# Altium footprint library tmp.PcbLib: 3 footprints
Each footprint in its own frame and in the unit in brackets; x right, y up, seen from the top. Pads: shape width x height; smd on the part's side, far side on the other; paste and mask are expansions set on the pad; w line width, h text height; cw(c..) or ccw(c..) is an arc to the next point about the centre after c.
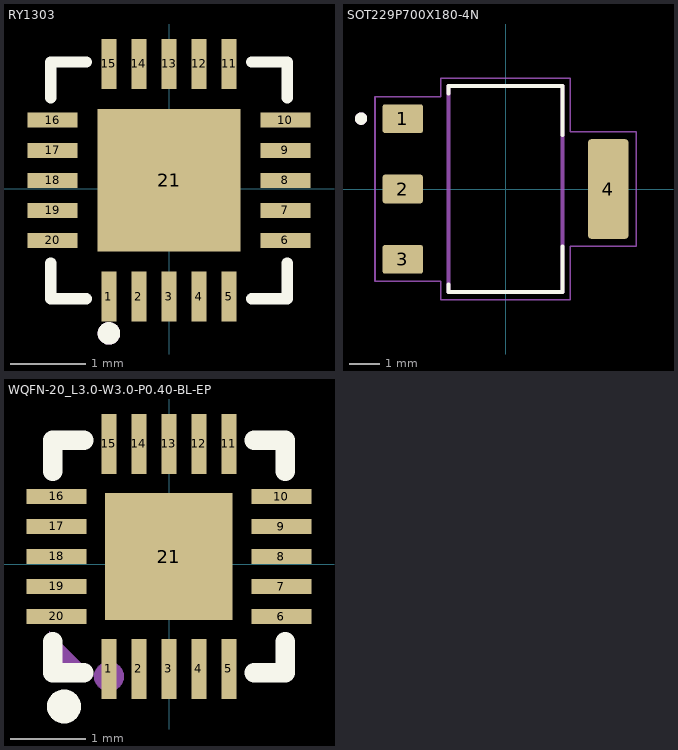
[diagram p0: the footprints below, top view; thin cyan lines are the x and y axes]

## RY1303 [mm]
pads (21):
  rect 0.2x0.665 smd: 1(-0.8,-1.434) 2(-0.4,-1.434) 3(0,-1.434) 4(0.4,-1.434) 5(0.8,-1.434) 11(0.8,1.666) 12(0.4,1.666) 13(0,1.666) 14(-0.4,1.666) 15(-0.8,1.666)
  rect 0.665x0.2 smd: 6(1.55,-0.684) 7(1.55,-0.284) 8(1.55,0.116) 9(1.55,0.516) 10(1.55,0.916) 16(-1.55,0.916) 17(-1.55,0.516) 18(-1.55,0.116) 19(-1.55,-0.284) 20(-1.55,-0.684)
  rect 1.9x1.9 smd: 21(0,0.116)
Top Overlay:
  circle w0.15: c-0.8,-1.924 r0.075
  lines w0.152: -1.576,-0.986 -1.576,-1.46 -1.103,-1.46 ; -1.576,1.219 -1.576,1.692 -1.103,1.692 ; 1.103,-1.46 1.576,-1.46 1.576,-0.986 ; 1.103,1.692 1.576,1.692 1.576,1.219
Mechanical 15:
  circle w0.15: c-0.8,-1.924 r0.075

## SOT229P700X180-4N [mm]
pads (4):
  rrect15% 1.31x0.93 smd: 1(-3.345,2.29) 2(-3.345,0) 3(-3.345,-2.29)
  rrect15% 1.31x3.24 smd: 4(3.345,0)
Top Overlay:
  circle w0.2: c-4.703,2.29 r0.1
  lines w0.127: -1.86,-3.11 -1.86,-3.36 1.86,-3.36 1.86,-1.87 ; -1.86,3.1 -1.86,3.36 1.86,3.36 1.86,1.76
Mechanical 13:
  circle w0.2: c-4.703,2.29 r0.1
  lines w0.127: -1.86,-3.36 1.86,-3.36 1.86,3.36 -1.86,3.36 -1.86,-3.36
Mechanical 15:
  lines w0.05: -4.25,-3.01 -4.25,3.01 -2.11,3.01 -2.11,3.61 2.11,3.61 2.11,1.87 4.25,1.87 4.25,-1.87 2.11,-1.87 2.11,-3.61 -2.11,-3.61 -2.11,-3.01 -4.25,-3.01
3D body "step_temp.STEP": height 0.97, standoff -0.84, extent -3.499,-3.251 3.499,3.251

## WQFN-20_L3.0-W3.0-P0.40-BL-EP [mm]
pads (21):
  rect 0.2x0.8 smd: 1(-0.8,-1.4) 2(-0.4,-1.4) 3(0,-1.4) 4(0.4,-1.4) 5(0.8,-1.4) 11(0.8,1.6) 12(0.4,1.6) 13(0,1.6) 14(-0.4,1.6) 15(-0.8,1.6)
  rect 0.8x0.2 smd: 6(1.5,-0.7) 7(1.5,-0.3) 8(1.5,0.1) 9(1.5,0.5) 10(1.5,0.9) 16(-1.5,0.9) 17(-1.5,0.5) 18(-1.5,0.1) 19(-1.5,-0.3) 20(-1.5,-0.7)
  rect 1.7x1.7 smd: 21(0,0.1)
Top Overlay:
  circle w0.254: c-1.4,-1.9 r0.1
  lines w0.254: -1.55,-1.031 -1.55,-1.45 -1.131,-1.45 ; -1.55,1.231 -1.55,1.65 -1.131,1.65 ; 1.131,-1.45 1.55,-1.45 1.55,-1.031 ; 1.131,1.65 1.55,1.65 1.55,1.231
Mechanical 15:
  circle w0.2: c-0.8,-1.5 r0.1
  region: -1.6,-1.5 -1.6,-0.9 -1,-1.5